# EAGLE library part DRV8711 (library texas)
DRV8711 Stepper Motor Controller IC
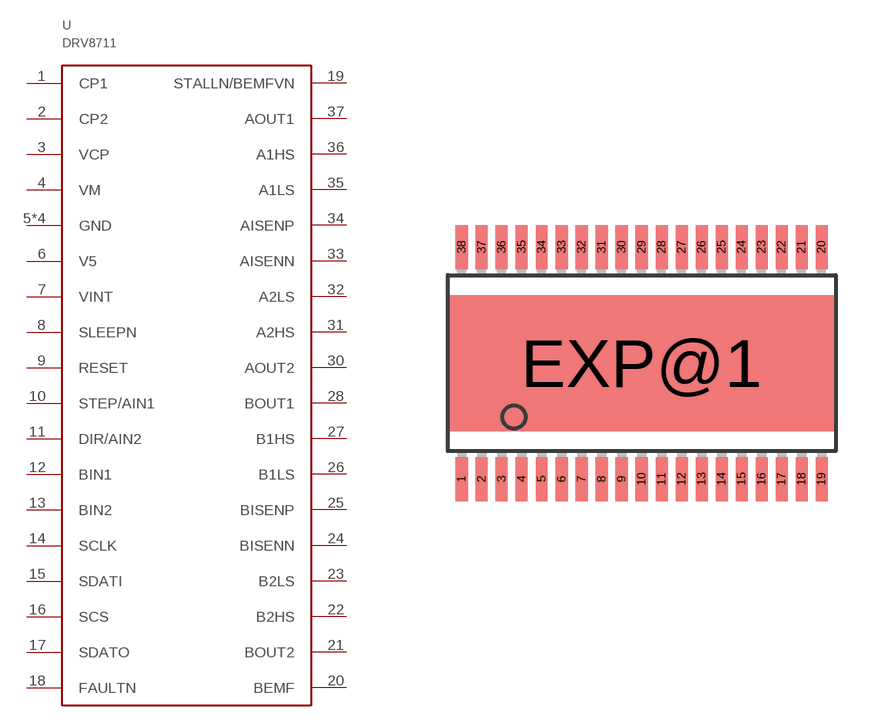
[diagram p126: symbol with the pads of HTSSOP38DCP; footprint HTSSOP38DCP]

Designator prefix -

## DRV8711  [HTSSOP38DCP]
1  CP1
2  CP2
3  VCP
4  VM
5  GND
6  V5
7  VINT
8  SLEEPN
9  RESET
10  STEP/AIN1
11  DIR/AIN2
12  BIN1
13  BIN2
14  SCLK
15  SDATI
16  SCS
17  SDATO
18  FAULTN
19  STALLN/BEMFVN
20  BEMF
21  BOUT2
22  B2HS
23  B2LS
24  BISENN
25  BISENP
26  B1LS
27  B1HS
28  BOUT1
29  GND
30  AOUT2
31  A2HS
32  A2LS
33  AISENN
34  AISENP
35  A1LS
36  A1HS
37  AOUT1
38  GND
EXP@1  GND

## Footprint HTSSOP38DCP (pad centres in mm)
PowerPAD(TM) PLASTIC SMALL-OUTLINE PACKAGE DCP (R-PDSO-G**) Source: http://focus.ti.com/lit/ml/mpds041b/mpds041b.pdf / slma002.pdf
smd 0.3 x 1.1: 1 -4.5,-2.9; 2 -4,-2.9; 3 -3.5,-2.9; 4 -3,-2.9; 5 -2.5,-2.9; 6 -2,-2.9; 7 -1.5,-2.9; 8 -1,-2.9; 9 -0.5,-2.9; 10 0,-2.9; 11 0.5,-2.9; 12 1,-2.9; 13 1.5,-2.9; 14 2,-2.9; 15 2.5,-2.9; 16 3,-2.9; 17 3.5,-2.9; 18 4,-2.9; 19 4.5,-2.9; 20 4.5,2.9; 21 4,2.9; 22 3.5,2.9; 23 3,2.9; 24 2.5,2.9; 25 2,2.9; 26 1.5,2.9; 27 1,2.9; 28 0.5,2.9; 29 0,2.9; 30 -0.5,2.9; 31 -1,2.9; 32 -1.5,2.9; 33 -2,2.9; 34 -2.5,2.9; 35 -3,2.9; 36 -3.5,2.9; 37 -4,2.9; 38 -4.5,2.9
smd 9.7 x 3.4: EXP@1 0,0